# EAGLE library part RELAY_UD2 (library wheat)
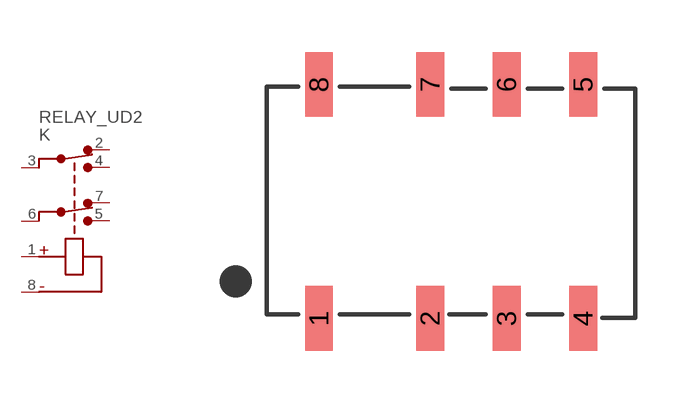
[diagram p156: symbol with the pads of RELAY_UD2; footprint RELAY_UD2]

Designator prefix K

## RELAY_UD2  [RELAY_UD2]
1  C+  pas
2  NC1  pas
3  COM1  pas
4  NO1  pas
5  NO2  pas
6  COM2  pas
7  NC2  pas
8  C-  pas

## Footprint RELAY_UD2 (pad centres in mm)
smd 0.8 x 1.86: 1 -3.8,-3.37; 2 -0.6,-3.37; 3 1.6,-3.37; 4 3.8,-3.37; 5 3.8,3.37; 6 1.6,3.37; 7 -0.6,3.37; 8 -3.8,3.37